# Altium schematic symbol library 228CMVARGB.Schlib: 1 symbol
Pins are listed as number, name and electrical type; pins without a type are passive.

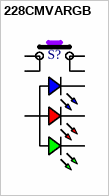
[diagram p0: symbol 228CMVARGB]

## 228CMVARGB
designator S?
tactile illuminated switch 7.2X7.2
pins: 1, 2, 3, 4, L1, L2, L3, L4